# EAGLE library part TFBS4711 (library wicked-device)
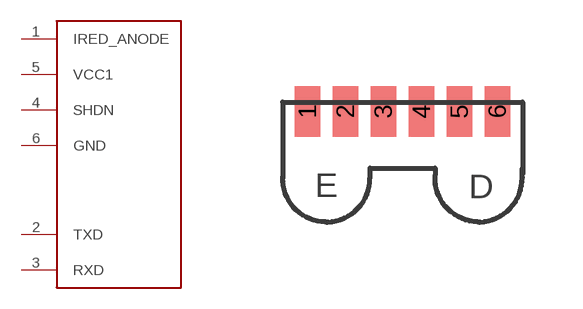
[diagram p13: symbol with the pads of TFBS4711; footprint TFBS4711]

Designator prefix -

## TFBS4711  [TFBS4711]
1  IRED_ANODE  sup
2  TXD  in
3  RXD  out
4  SHDN  in
5  VCC1  sup
6  GND  sup

## Footprint TFBS4711 (pad centres in mm)
smd 0.64 x 1.27: 1 -2.375,-0.635; 2 -1.425,-0.635; 3 -0.475,-0.635; 4 0.475,-0.635; 5 1.425,-0.635; 6 2.375,-0.635